# Altium schematic symbol library resistores.SchLib: 21 symbols
Pins are listed as number, name and electrical type; pins without a type are passive.

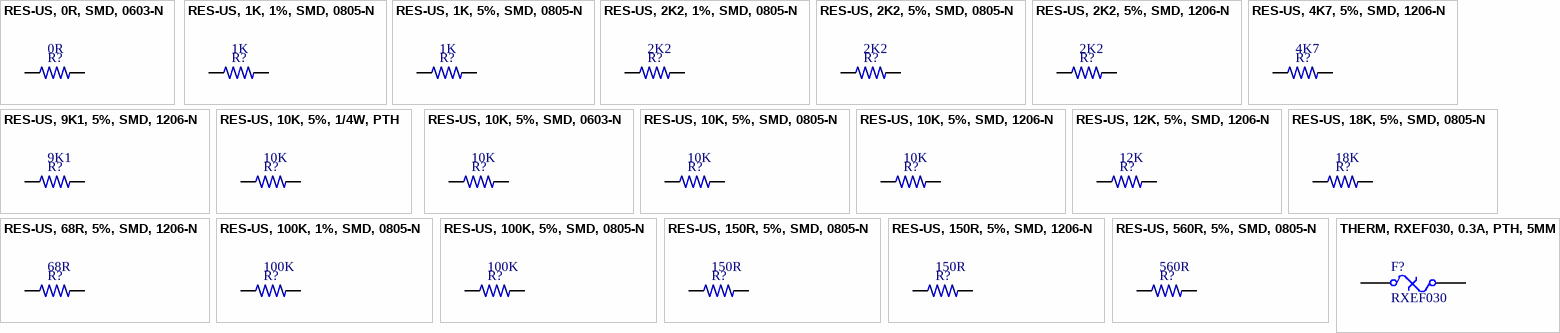
[diagram p0: symbols RES-US, 0R, SMD, 0603-N to THERM, RXEF030, 0.3A, PTH, 5MM]

## RES-US, 0R, SMD, 0603-N
designator R?  value 0R
Power: 1/10; Tol: 5%
footprint RES SMD 0603-N (Chip Resistor, Body 1.6x0.8mm, IPC Medium Density)
pins: 1, 2

## RES-US, 1K, 1%, SMD, 0805-N
designator R?  value 1K
Power: 1/8; Tol: 1%
footprint RES SMD 0805-N (Chip Resistor, Body 2.0x1.3mm, IPC Medium Density)
signal-integrity model Res
pins: 1, 2

## RES-US, 1K, 5%, SMD, 0805-N
designator R?  value 1K
Power: 1/8; Tol: 5%
footprint RES SMD 0805-N (Chip Resistor, Body 2.0x1.3mm, IPC Medium Density)
signal-integrity model Res
pins: 1, 2

## RES-US, 2K2, 1%, SMD, 0805-N
designator R?  value 2K2
Power: 1/8; Tol: 1%
footprint RES SMD 0805-N (Chip Resistor, Body 2.0x1.3mm, IPC Medium Density)
signal-integrity model Res
pins: 1, 2

## RES-US, 2K2, 5%, SMD, 0805-N
designator R?  value 2K2
Power: 1/8; Tol: 5%
footprint RES SMD 0805-N (Chip Resistor, Body 2.0x1.3mm, IPC Medium Density)
signal-integrity model Res
pins: 1, 2

## RES-US, 2K2, 5%, SMD, 1206-N
designator R?  value 2K2
Power: 1/8; Tol: 5%
footprint RES SMD 1206-N (Chip Resistor, Body 3.2x1.6mm, IPC Medium Density)
signal-integrity model Res
pins: 1, 2

## RES-US, 4K7, 5%, SMD, 1206-N
designator R?  value 4K7
Power: 1/4; Tol: 5%
footprint RES SMD 1206-N (Chip Resistor, Body 3.2x1.6mm, IPC Medium Density)
pins: 1, 2

## RES-US, 9K1, 5%, SMD, 1206-N
designator R?  value 9K1
Power: 1/4; Tol: 5%
footprint RES SMD 1206-N (Chip Resistor, Body 3.2x1.6mm, IPC Medium Density)
pins: 1, 2

## RES-US, 10K, 5%, 1/4W, PTH
designator R?  value 10K
Power: 1/4; Tol: 5%
footprint RES PTH 1/4W (RES50 1/4W)
simulation model RESISTOR (Resistor)
signal-integrity model Res
pins: 1, 2

## RES-US, 10K, 5%, SMD, 0603-N
designator R?  value 10K
Power: 1/10; Tol: 5%
footprint RES SMD 0603-N (Chip Resistor, Body 1.6x0.8mm, IPC Medium Density)
simulation model RESISTOR (Resistor)
signal-integrity model Res
pins: 1, 2

## RES-US, 10K, 5%, SMD, 0805-N
designator R?  value 10K
Power: 1/8; Tol: 5%
footprint RES SMD 0805-N (Chip Resistor, Body 2.0x1.3mm, IPC Medium Density)
simulation model RESISTOR (Resistor)
signal-integrity model Res
pins: 1, 2

## RES-US, 10K, 5%, SMD, 1206-N
designator R?  value 10K
Power: 1/4; Tol: 5%
footprint RES SMD 1206-N (Chip Resistor, Body 3.2x1.6mm, IPC Medium Density)
simulation model RESISTOR (Resistor)
signal-integrity model Res
pins: 1, 2

## RES-US, 12K, 5%, SMD, 1206-N
designator R?  value 12K
Power: 1/4; Tol: 5%
footprint RES SMD 1206-N (Chip Resistor, Body 3.2x1.6mm, IPC Medium Density)
pins: 1, 2

## RES-US, 18K, 5%, SMD, 0805-N
designator R?  value 18K
Power: 1/8; Tol: 5%
footprint RES SMD 0805-N (Chip Resistor, Body 2.0x1.3mm, IPC Medium Density)
signal-integrity model Res
pins: 1, 2

## RES-US, 68R, 5%, SMD, 1206-N
designator R?  value 68R
Power: 1/4; Tol: 5%
footprint RES SMD 1206-N (Chip Resistor, Body 3.2x1.6mm, IPC Medium Density)
pins: 1, 2

## RES-US, 100K, 1%, SMD, 0805-N
designator R?  value 100K
Power: 1/8; Tol: 1%
footprint RES SMD 0805-N (Chip Resistor, Body 2.0x1.3mm, IPC Medium Density)
signal-integrity model Res
pins: 1, 2

## RES-US, 100K, 5%, SMD, 0805-N
designator R?  value 100K
Power: 1/8; Tol: 5%
footprint RES SMD 0805-N (Chip Resistor, Body 2.0x1.3mm, IPC Medium Density)
signal-integrity model Res
pins: 1, 2

## RES-US, 150R, 5%, SMD, 0805-N
designator R?  value 150R
Power: 1/8; Tol: 5%
footprint RES SMD 0805-N (Chip Resistor, Body 2.0x1.3mm, IPC Medium Density)
signal-integrity model Res
pins: 1, 2

## RES-US, 150R, 5%, SMD, 1206-N
designator R?  value 150R
Power: 1/4; Tol: 5%
footprint RES SMD 1206-N (Chip Resistor, Body 3.2x1.6mm, IPC Medium Density)
pins: 1, 2

## RES-US, 560R, 5%, SMD, 0805-N
designator R?  value 560R
Power: 1/8; Tol: 5%
footprint RES SMD 0805-N (Chip Resistor, Body 2.0x1.3mm, IPC Medium Density)
signal-integrity model Res
pins: 1, 2

## THERM, RXEF030, 0.3A, PTH, 5MM
designator F?, comment RXEF030
PolySwitch PTC Thermal Fuse 300mA
footprint THERM PTH 5MM
pins: 1, 2